# EAGLE library part LT1111CS8-5#PBF (library LT1111CS8-5#PBF)
Linear Technology LT1111CS8-5#PBF, Inverting, Step-Down/Up DC-DC Converter, 8-Pin SOIC Source: Datasheet <https://datasheet.datasheetarchive.com/originals/distributors/SFDatasheet-4/sf-00090801.pdf>
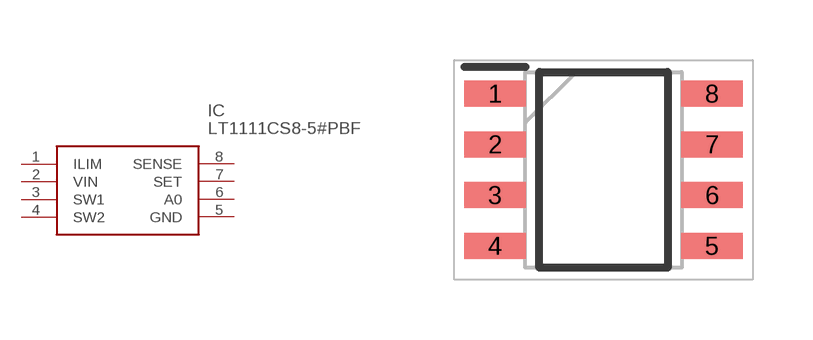
[diagram p0: symbol with the pads of SOIC127P599X175-8N; footprint SOIC127P599X175-8N]

Designator prefix IC

## LT1111CS8-5#PBF (Description: Linear Technology LT1111CS8-5#PBF, Inverting, Step-Down/Up DC-DC Converter, 8-Pin SOIC; Height: 1.752mm; Manufacturer_Name: Analog Devices; Manufacturer_Part_Number: LT1111CS8-5#PBF; Mouser_Part_Number: 584-LT1111CS8-5#PBF; Mouser_Price-Stock: https://www.mouser.co.uk/ProductDetail/Analog-Devices/LT1111CS8-5PBF?qs=ytflclh7QUXK7fNFBDePaQ%3D%3D)  [SOIC127P599X175-8N]
1  ILIM
2  VIN
3  SW1
4  SW2
5  GND
6  A0
7  SET
8  SENSE

## Footprint SOIC127P599X175-8N (pad centres in mm)
S8 Package
smd 1.526 x 0.65: 1 -2.712,1.905; 2 -2.712,0.635; 3 -2.712,-0.635; 4 -2.712,-1.905; 5 2.712,-1.905; 6 2.712,-0.635; 7 2.712,0.635; 8 2.712,1.905